# EAGLE library part ADAFRUIT-DRV8833 (library SPCoast)
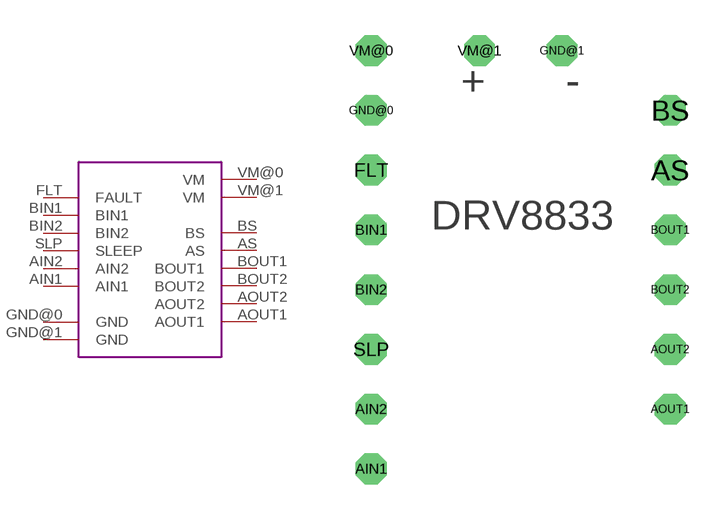
[diagram p52: symbol with the pads of DRV8833; footprint DRV8833]

Designator prefix -

## ADAFRUIT-DRV8833  [DRV8833]
AIN1  AIN1
AIN2  AIN2
AOUT1  AOUT1
AOUT2  AOUT2
AS  AS
BIN1  BIN1
BIN2  BIN2
BOUT1  BOUT1
BOUT2  BOUT2
BS  BS
FLT  FAULT
GND@0  GND
GND@1  GND
SLP  SLEEP
VM@0  VM
VM@1  VM

## Footprint DRV8833 (pad centres in mm)
drill 0.8 octagon: AIN1 -6.35,-17.78; AIN2 -6.35,-15.24; AOUT1 6.35,-15.24; AOUT2 6.35,-12.7; AS 6.35,-5.08; BIN1 -6.35,-7.62; BIN2 -6.35,-10.16; BOUT1 6.35,-7.62; BOUT2 6.35,-10.16; BS 6.35,-2.54; FLT -6.35,-5.08; GND@0 -6.35,-2.54; GND@1 1.75,0; SLP -6.35,-12.7; VM@0 -6.35,0; VM@1 -1.75,0